# EAGLE library part MICROCHIP-UPDATE-2_MCP2200 (library untitled)
USB 2.0 to UART Protocol Converter with GPIO
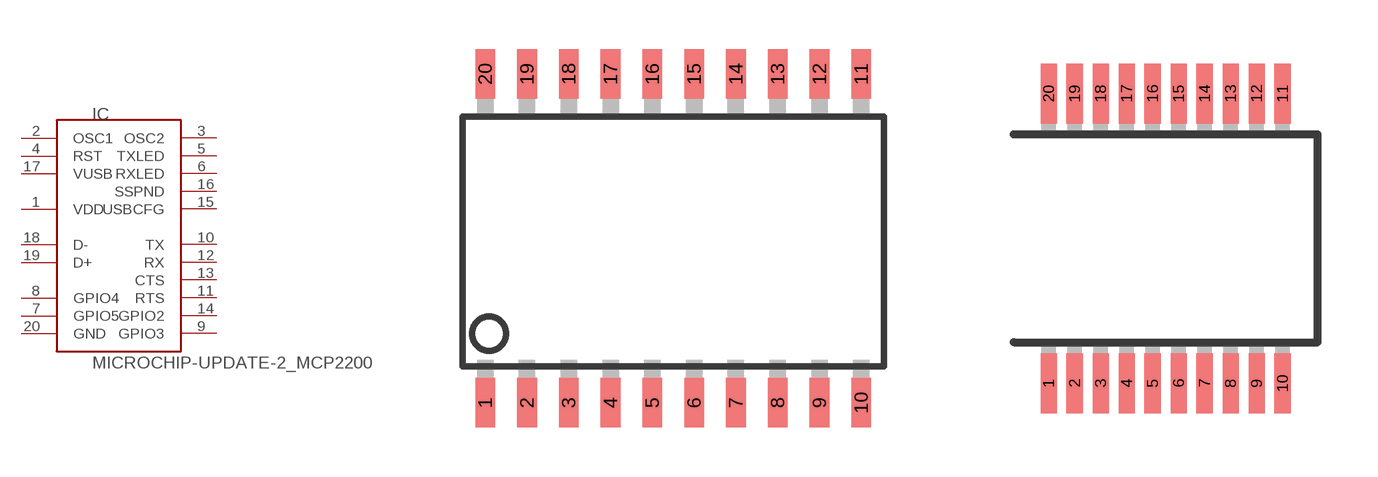
[diagram p5: symbol with the pads of MICROCHIP-UPDATE-2_SOIC20; footprints MICROCHIP-UPDATE-2_SOIC20, MICROCHIP-UPDATE-2_SSOP20]

Designator prefix IC

## MICROCHIP-UPDATE-2_MCP2200SOIC20  [MICROCHIP-UPDATE-2_SOIC20]
1  VDD
2  OSC1
3  OSC2
4  RST
5  TXLED
6  RXLED
7  GPIO5
8  GPIO4
9  GPIO3
10  TX
11  RTS
12  RX
13  CTS
14  GPIO2
15  USBCFG
16  SSPND
17  VUSB
18  D-
19  D+
20  GND

## MICROCHIP-UPDATE-2_MCP2200SSOP20  [MICROCHIP-UPDATE-2_SSOP20]
Pads as for MICROCHIP-UPDATE-2_SOIC20

## Footprint MICROCHIP-UPDATE-2_SOIC20 (pad centres in mm)
Plastic Small Outline Package package type SO
smd 0.6 x 1.5: 1 -5.715,-5; 2 -4.445,-5; 3 -3.175,-5; 4 -1.905,-5; 5 -0.635,-5; 6 0.635,-5; 7 1.905,-5; 8 3.175,-5; 9 4.445,-5; 10 5.715,-5; 11 5.715,5; 12 4.445,5; 13 3.175,5; 14 1.905,5; 15 0.635,5; 16 -0.635,5; 17 -1.905,5; 18 -3.175,5; 19 -4.445,5; 20 -5.715,5

## Footprint MICROCHIP-UPDATE-2_SSOP20 (pad centres in mm)
Shrink Small Outline Package package type SS
smd 0.4 x 1.5: 1 -2.925,-3.625; 2 -2.275,-3.625; 3 -1.625,-3.625; 4 -0.975,-3.625; 5 -0.325,-3.625; 6 0.325,-3.625; 7 0.975,-3.625; 8 1.625,-3.625; 9 2.275,-3.625; 10 2.925,-3.625; 11 2.925,3.625; 12 2.275,3.625; 13 1.625,3.625; 14 0.975,3.625; 15 0.325,3.625; 16 -0.325,3.625; 17 -0.975,3.625; 18 -1.625,3.625; 19 -2.275,3.625; 20 -2.925,3.625